# EAGLE library part ADAFRUIT-20X4-RGB-LCD (library cabinet_temp_regulator)
ADAFRUIT RGB BACKLIGHT POSITIVE LCD 20X4 <https://www.adafruit.com/product/499>
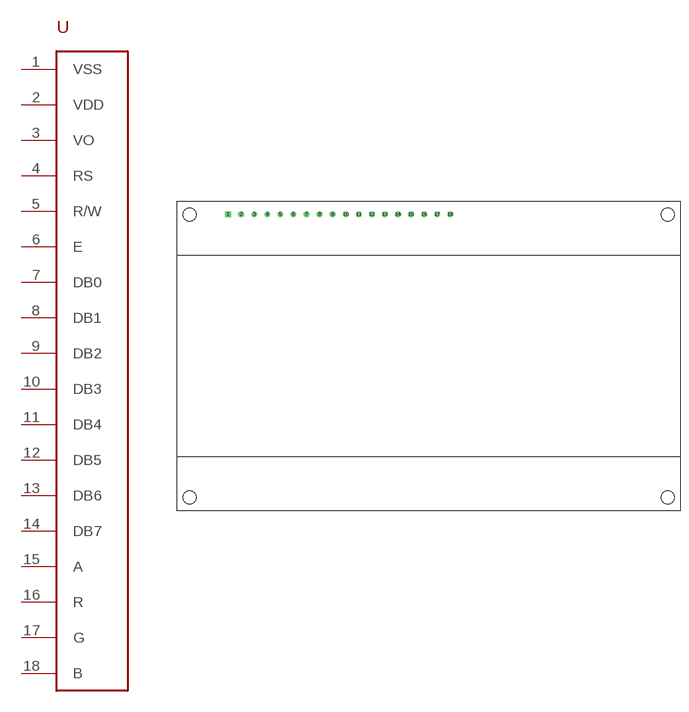
[diagram p2: symbol with the pads of ADAFRUIT-20X4-RGB-LCD; footprint ADAFRUIT-20X4-RGB-LCD]

Designator prefix -

## ADAFRUIT-20X4-RGB-LCD  [ADAFRUIT-20X4-RGB-LCD]
1  VSS  pwr
2  VDD  pwr
3  VO
4  RS
5  R/W  pwr
6  E
7  DB0
8  DB1
9  DB2
10  DB3
11  DB4
12  DB5
13  DB6
14  DB7
15  A  pwr
16  R
17  G
18  B

## Footprint ADAFRUIT-20X4-RGB-LCD (pad centres in mm)
ADAFRUIT RGB BACKLIGHT POSITIVE LCD 20X4 https://www.adafruit.com/product/499
drill 0.6 square: 1 -39,27.5
drill 0.6: 2 -36.46,27.5; 3 -33.92,27.5; 4 -31.38,27.5; 5 -28.84,27.5; 6 -26.3,27.5; 7 -23.76,27.5; 8 -21.22,27.5; 9 -18.68,27.5; 10 -16.14,27.5; 11 -13.6,27.5; 12 -11.06,27.5; 13 -8.52,27.5; 14 -5.98,27.5; 15 -3.44,27.5; 16 -0.9,27.5; 17 1.64,27.5; 18 4.18,27.5
hole 2.5 at -46.5,27.5
hole 2.5 at -46.5,-27.5
hole 2.5 at 46.5,-27.5
hole 2.5 at 46.5,27.5